# Altium schematic symbol library Main_C.SCHLIB: 51 symbols
Pins are listed as number, name and electrical type; pins without a type are passive.

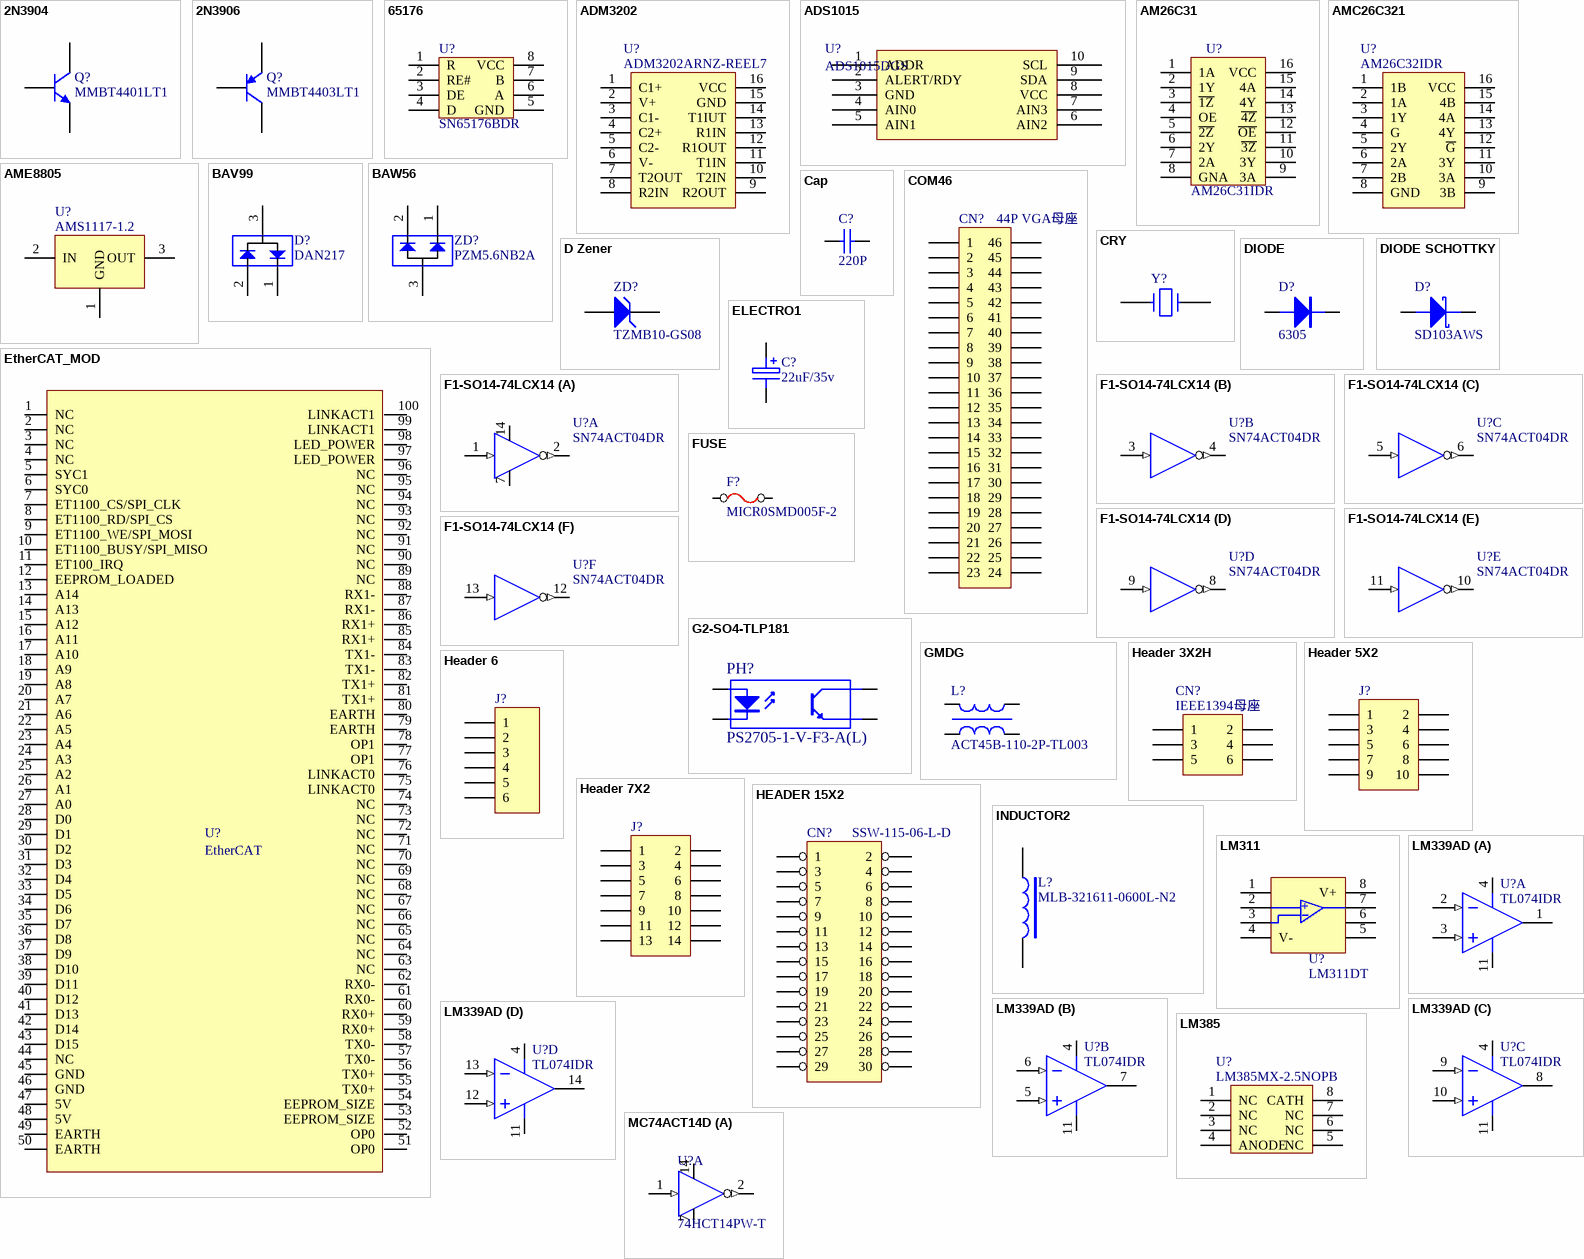
[diagram p0: symbols 2N3904 to MC74ACT14D]

## 2N3904
designator Q?, comment MMBT4401LT1
NPN General Purpose Amplifier; Published: 8-Jun-2000; LatestRevisionDate: 15-Jan-2003; LatestRevisionNote: PCB Footprint 'BCY-W3/D4.7' replaced; DatasheetDocument: 1997; PackageDocument: Sep-1998; PackageReference: TO-92A; Publisher: Altium Limited; Code_JEDEC: TO-92A; ComponentLink1Description: Manufacturer Link; ComponentLink1URL: http://www.fairchildsemi.com/; ComponentLink2Description: Datasheet; ComponentLink2URL: http://www.fairchildsemi.com/ds/2N%2F2N3904.pdf
footprint SOT-23
simulation model 2N3904 (NPN)
signal-integrity model 2N3904
pins: 1 E, 2 B, 3 C

## 2N3906
designator Q?, comment MMBT4403LT1
PNP General Purpose Amplifier; Published: 8-Jun-2000; LatestRevisionDate: 15-Jan-2003; LatestRevisionNote: PCB Footprint 'BCY-W3/D4.7' replaced; DatasheetDocument: 1997; PackageDocument: Sep-1998; PackageReference: TO-92A; Publisher: Altium Limited; Code_JEDEC: TO-92A; ComponentLink1Description: Manufacturer Link; ComponentLink1URL: http://www.fairchildsemi.com/; ComponentLink2Description: Datasheet; ComponentLink2URL: http://www.fairchildsemi.com/ds/2N%2F2N3906.pdf
footprint SOT-23
simulation model 2N3906 (PNP)
signal-integrity model 2N3906
pins: 1 E, 2 B, 3 C

## 65176
designator U?, comment SN65176BDR
footprint SOP-8 (U?)
pins: 1 R, 2 RE#, 3 DE, 4 D, 5 GND, 6 A, 7 B, 8 VCC

## ADM3202
designator U?, comment ADM3202ARNZ-REEL7
footprint SOP-14 (U?)
pins: 1 C1+, 2 V+, 3 C1-, 4 C2+, 5 C2-, 6 V-, 7 T2OUT, 8 R2IN, 9 R2OUT, 10 T2IN, 11 T1IN, 12 R1OUT, 13 R1IN, 14 T1IUT, 15 GND, 16 VCC

## ADS1015
designator U?, comment ADS1015DGS
footprint VSSOP-10
pins: 1 ADDR, 2 ALERT/RDY, 3 GND, 4 AIN0, 5 AIN1, 6 AIN2, 7 AIN3, 8 VCC, 9 SDA, 10 SCL

## AM26C31
designator U?, comment AM26C31IDR
footprint SOP-14 (U?)
pins: 1 1A, 2 1Y, 3 ~{1Z}, 4 OE, 5 ~{2Z}, 6 2Y, 7 2A, 8 GNA, 9 3A, 10 3Y, 11 ~{3Z}, 12 ~{OE}, 13 ~{4Z}, 14 4Y, 15 4A, 16 VCC

## AMC26C321
designator U?, comment AM26C32IDR
footprint SOP-14 (U?)
pins: 1 1B, 2 1A, 3 1Y, 4 G, 5 2Y, 6 2A, 7 2B, 8 GND, 9 3B, 10 3A, 11 3Y, 12 ~{G}, 13 4Y, 14 4A, 15 4B, 16 VCC

## AME8805
designator U?, comment AMS1117-1.2
footprint SOT89D (Footprint not found)
pins: 1 GND, 2 IN, 3 OUT

## BAV99
designator D?, comment DAN217
footprint SOT-23
pins: 1, 2, 3

## BAW56
designator ZD?, comment PZM5.6NB2A
footprint SOT-23
pins: 1, 2, 3

## Cap
designator C?, comment 220P
Capacitor; Value: 100pF; Published: 8-Jun-2000; LatestRevisionDate: 17-Jul-2002; LatestRevisionNote: Re-released for DXP Platform.; PackageReference: RAD-0.3; Publisher: Altium Limited
footprint 0603C
footprint VP32-3.2 (Capacitor, Ceramic, Thru-Hole, Dipped Radial; Body 5.1 x 3.2 mm (WxT) Pin Spacing 2.54 mm (typ))
footprint VP45-3.2 (Capacitor, Ceramic, Thru-Hole, Dipped Radial; Body 7.8 x 3.2 mm (WxT) Pin Spacing 5.08 mm (typ))
simulation model CAP (Capacitor)
signal-integrity model Cap
pins: 1, 2

## COM46
designator CN?, comment 44P VGA母座
pins: 1, 2, 3, 4, 5, 6, 7, 8, 9, 10, 11, 12, 13, 14, 15, 16, 17, 18, 19, 20, 21, 22, 23, 24, 25, 26, 27, 28, 29, 30, 31, 32, 33, 34, 35, 36, 37, 38, 39, 40, 41, 42, 43, 44, 45, 46

## CRY
designator Y?  (value not drawn)
footprint CY4X7 (Y?)
pins: 1, 2 3

## D Zener
designator ZD?, comment TZMB10-GS08
Zener Diode; Published: 8-Jun-2000; LatestRevisionDate: 17-Jul-2002; LatestRevisionNote: Re-released for DXP Platform.; PackageReference: DIODE-0.7; Publisher: Altium Limited
footprint MLL34D
simulation model ZENER (Diode)
signal-integrity model D Zener
pins: 1 A, 2 K

## DIODE
designator D?, comment 6305
Diode
footprint MLL35D
pins: 1, 2

## DIODE SCHOTTKY
designator D?, comment SD103AWS
Schottky Diode
pins: 1 A, 2 K

## ELECTRO1
designator C?, comment 22uF/35v
Electrolytic Capacitor
footprint EC46
pins: 1, 2

## EtherCAT_MOD
designator U?, comment EtherCAT
footprint EtherCAT
pins: 1 NC, 2 NC, 3 NC, 4 NC, 5 SYC1, 6 SYC0, 7 ET1100_CS/SPI_CLK, 8 ET1100_RD/SPI_CS, 9 ET1100_WE/SPI_MOSI, 10 ET1100_BUSY/SPI_MISO, 11 ET100_IRQ, 12 EEPROM_LOADED, 13 A14, 14 A13, 15 A12, 16 A11, 17 A10, 18 A9, 19 A8, 20 A7, 21 A6, 22 A5, 23 A4, 24 A3, 25 A2, 26 A1, 27 A0, 28 D0, 29 D1, 30 D2, 31 D3, 32 D4, 33 D5, 34 D6, 35 D7, 36 D8, 37 D9, 38 D10, 39 D11, 40 D12, 41 D13, 42 D14, 43 D15, 44 NC, 45 GND, 46 GND, 47 5V, 48 5V, 49 EARTH, 50 EARTH, 51 OP0, 52 OP0, 53 EEPROM_SIZE, 54 EEPROM_SIZE, 55 TX0+, 56 TX0+, 57 TX0-, 58 TX0-, 59 RX0+, 60 RX0+, 61 RX0-, 62 RX0-, 63 NC, 64 NC, 65 NC, 66 NC, 67 NC, 68 NC, 69 NC, 70 NC, 71 NC, 72 NC, 73 NC, 74 NC, 75 LINKACT0, 76 LINKACT0, 77 OP1, 78 OP1, 79 EARTH, 80 EARTH, 81 TX1+, 82 TX1+, 83 TX1-, 84 TX1-, 85 RX1+, 86 RX1+, 87 RX1-, 88 RX1-, 89 NC, 90 NC, 91 NC, 92 NC, 93 NC, 94 NC, 95 NC, 96 NC, 97 LED_POWER, 98 LED_POWER, 99 LINKACT1, 100 LINKACT1

## F1-SO14-74LCX14
designator U?, comment SN74ACT04DR
IC; Parts Number: 00000; Parts DES: SO14; Body Width 5.6mm; Pitch 1.27mm; Parts Type: SMD IC; Parts Model: 74LCX14; PCB DECAL: SO14 Small Outline; 14 Leads; Body Width 5.6mm; Pitch 1.27mm; Units: PCS; Height(mm): 1.1mm; Value: SN74ACT04DR
footprint D014_N
footprint D014_L
footprint D014_M
footprint SOIC14
part A pins: 1 A (in), 2 Y (out), 7 GND, 14 POW
part B pins: 3 A (in), 4 Y (out)
part C pins: 5 A (in), 6 Y (out)
part D pins: 8 Y (out), 9 A (in)
part E pins: 10 Y (out), 11 A (in)
part F pins: 12 Y (out), 13 A (in)
2 alternate drawings of the same symbol

## FUSE
designator F?, comment MICR0SMD005F-2
Fuse
simulation model FUSE (SUBCKT)
pins: 1, 2

## G2-SO4-TLP181
designator PH?, comment PS2705-1-V-F3-A(L)
Opto-coupler; Parts DES: 光耦; Parts Number: 30102; Parts Model: TLP181GB （东芝）; Parts Type: SMD IC; PCB DECAL: SO4 Small Outline; 4 Leads; Body Width 4.4mm; Pitch 2.54mm; Units: PCS; Value: TLP185; Height(mm): 2.5mm
footprint DIP4
footprint SOIC4
footprint SOIC4
pins: 1, 2, 3, 4
2 alternate drawings of the same symbol

## GMDG
designator L?, comment ACT45B-110-2P-TL003
footprint INDUCTOR-M
pins: 1, 2, 3, 4

## Header 3X2H
designator CN?, comment IEEE1394母座
Header, 3-Pin, Dual row, Right Angle; LatestRevisionDate: 17-Jul-2002; LatestRevisionNote: Re-released for DXP Platform.; Publisher: Altium Limited
footprint HDR2X3H (Connector; Header; 3x2 Position; Right Angle)
signal-integrity model Connector
pins: 1, 2, 3, 4, 5, 6

## Header 5X2
designator J?
Header, 5-Pin, Dual row; LatestRevisionDate: 17-Jul-2002; LatestRevisionNote: Re-released for DXP Platform.; Publisher: Altium Limited
footprint HDR2X5 (Connector; Header; 5x2 Position)
signal-integrity model Connector
pins: 1, 2, 3, 4, 5, 6, 7, 8, 9, 10

## Header 6
designator J?  (value not drawn)
Header, 6-Pin; LatestRevisionDate: 17-Jul-2002; LatestRevisionNote: Re-released for DXP Platform.; Publisher: Altium Limited
footprint HDR1X6 (Connector; Header; 6 Position)
signal-integrity model Connector
pins: 1, 2, 3, 4, 5, 6

## Header 7X2
designator J?
Header, 7-Pin, Dual row; LatestRevisionDate: 17-Jul-2002; LatestRevisionNote: Re-released for DXP Platform.; Publisher: Altium Limited
footprint HDR2X7 (Connector; Header; 7x2 Position)
signal-integrity model Connector
pins: 1, 2, 3, 4, 5, 6, 7, 8, 9, 10, 11, 12, 13, 14

## HEADER 15X2
designator CN?, comment SSW-115-06-L-D
footprint TB18
pins: 1, 2, 3, 4, 5, 6, 7, 8, 9, 10, 11, 12, 13, 14, 15, 16, 17, 18, 19, 20, 21, 22, 23, 24, 25, 26, 27, 28, 29, 30

## INDUCTOR2
designator L?, comment MLB-321611-0600L-N2
footprint 1206R
pins: 1, 2

## LM311
designator U?, comment LM311DT
footprint SOP-8 (U?)
pins: 1 GROUNT, 2 INPUT, 3 INPUT, 4 V-, 5, 6, 7, 8 V+
text: +

## LM339AD
designator U?, comment TL074IDR
Quad Single-Supply Comparator; Published: 17-Jul-2002; LatestRevisionDate: 13-Apr-2006; LatestRevisionNote: IPC-7351 Footprint Added.; DatasheetVersion: 1988; PackageVersion: 1991; PackageReference: 751A-02; Publisher: Altium Limited; PackageDescription: 14-Pin Small Outline Integrated Circuit 1.27 mm Pitch; Code_IPC: SOIC127P600-14; ComponentLink1Description: Manufacturer Link; ComponentLink1URL: http://www.onsemi.com/site/products/taxonomy/0,4438,133,00.html
3D model 751A-02 (14-Pin Small Outline Integrated Circuit 1.27 mm Pitch)
footprint SOP-14 (U?)
pins on every part: 4 GND (power), 11 V+ (power)
part A pins: 1 OUT (oc), 2 IN- (in), 3 IN+ (in)
part B pins: 5 IN+ (in), 6 IN- (in), 7 OUT2 (oc)
part C pins: 8 OUT (oc), 9 IN- (in), 10 IN+ (in)
part D pins: 12 IN+ (in), 13 IN- (in), 14 OUT (oc)

## LM385
designator U?, comment LM385MX-2.5NOPB
footprint SOP-8 (U?)
pins: 1 NC, 2 NC, 3 NC, 4 ANODE, 5 NC, 6 NC, 7 NC, 8 CATH

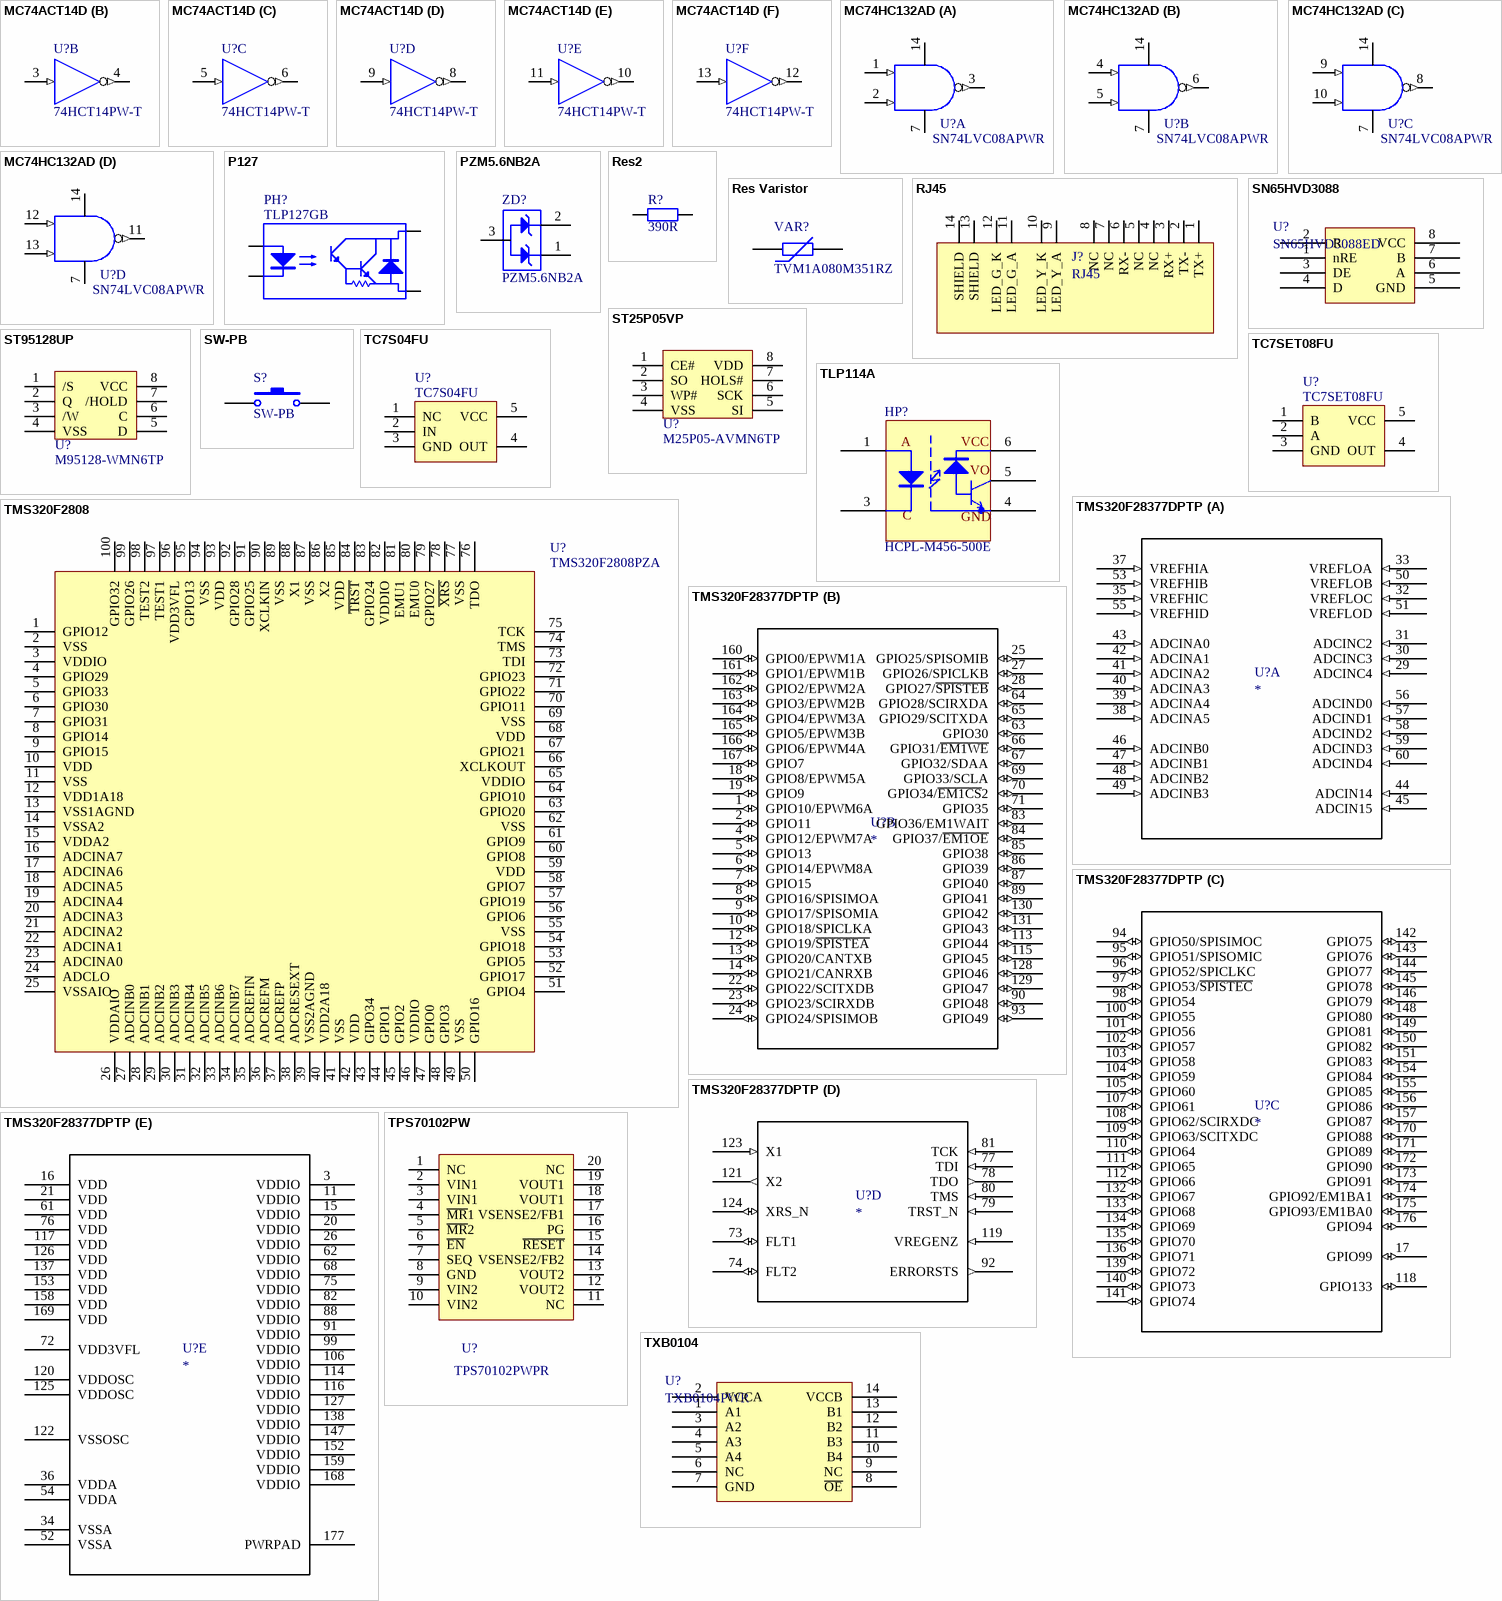
[diagram p1: symbols MC74ACT14D to TXB0104]

## MC74ACT14D
designator U?, comment 74HCT14PW-T
Hex Schmitt-Trigger Inverter; Published: 15-Apr-2002; LatestRevisionDate: 13-Apr-2006; LatestRevisionNote: IPC-7351 Footprint Added.; DatasheetVersion: 9-Apr-1996; PackageReference: 751A-03; Publisher: Altium Limited; PackageDescription: 14-Pin Small Outline Integrated Circuit 1.27 mm Pitch; Code_JEDEC: MS-012-AB; Code_IPC: SOIC127P600-14; ComponentLink1Description: Manufacturer Link; ComponentLink1URL: http://www.onsemi.com/; ComponentLink2Description: Datasheet; ComponentLink2URL: http://www.onsemi.com/pub/Collateral/MC74AC14-D.PDF
footprint sop-14 (U?)
part A pins: 1 IN (in), 2 ~{OUT} (out), 7 GND, 14 VCC
part B pins: 3 IN (in), 4 ~{OUT} (out)
part C pins: 5 IN (in), 6 ~{OUT} (out)
part D pins: 8 ~{OUT} (out), 9 IN (in)
part E pins: 10 ~{OUT} (out), 11 IN (in)
part F pins: 12 ~{OUT} (out), 13 IN (in)

## MC74HC132AD
designator U?, comment SN74LVC08APWR
Quad 2-Input NAND Gate with Schmitt Trigger Inputs; Published: 17-Jul-2002; LatestRevisionDate: 13-Apr-2006; LatestRevisionNote: IPC-7351 Footprint Added.; DatasheetVersion: 1989; PackageVersion: 1991; PackageReference: 751A-02; Publisher: Altium Limited; PackageDescription: 14-Pin Small Outline Integrated Circuit 1.27 mm Pitch; Code_IPC: SOIC127P600-14; ComponentLink1Description: Manufacturer Link; ComponentLink1URL: http://www.onsemi.com/site/products/parametrics/0,4446,247,00.html; ComponentLink2Description: Ibis Model; ComponentLink2URL: http://www.onsemi.com/pub/Collateral/MC54HC132AJ.IBS
footprint 751A-02_N (SOIC, 14-Leads, Body 8.7x3.9mm, Pitch 1.27mm, IPC Medium Density)
footprint 751A-02_L (SOIC, 14-Leads, Body 8.7x3.9mm, Pitch 1.27mm, IPC High Density)
footprint 751A-02_M (SOIC, 14-Leads, Body 8.7x3.9mm, Pitch 1.27mm, IPC Low Density)
3D model 751A-02 (14-Pin Small Outline Integrated Circuit 1.27 mm Pitch)
signal-integrity model MC74HC132AD
footprint SSOP-14 (U?)
pins on every part: 7 GND (power), 14 VCC (power)
part A pins: 1 A (in), 2 B (in), 3 Y (out)
part B pins: 4 A (in), 5 B (in), 6 Y (out)
part C pins: 8 Y (out), 9 A (in), 10 B (in)
part D pins: 11 Y (out), 12 A (in), 13 B (in)

## P127
designator PH?, comment TLP127GB
pins: 1 LED Anode, 2 LED Cathode, 3, 4

## PZM5.6NB2A
designator ZD?
pins: 1, 2, 3

## Res2
designator R?, comment 390R
Resistor; Value: 1K; Published: 8-Jun-2000; LatestRevisionDate: 17-Jul-2002; LatestRevisionNote: Re-released for DXP Platform.; PackageReference: AXIAL-0.4; Publisher: Altium Limited
footprint 0603R
simulation model RESISTOR (Resistor)
signal-integrity model Res
pins: 1, 2

## Res Varistor
designator VAR?, comment TVM1A080M351RZ
Varistor (Voltage-Sensitive Resistor); Published: 24-Mar-1999; LatestRevisionDate: 04-Mar-2005; LatestRevisionNote: PCB Footprint replaced.; PackageReference: 6-0805; Publisher: Altium Limited
footprint 0603R
pins: 1, 2

## RJ45
designator J?
footprint RJ45
pins: 1 TX+, 2 TX-, 3 RX+, 4 NC, 5 NC, 6 RX-, 7 NC, 8 NC, 9 LED_Y_A, 10 LED_Y_K, 11 LED_G_A, 12 LED_G_K, 13 SHIELD, 14 SHIELD

## SN65HVD3088
designator U?, comment SN65HVD3088ED
footprint SOIC-8
pins: 1 nRE, 2 R, 3 DE, 4 D, 5 GND, 6 A, 7 B, 8 VCC

## ST25P05VP
designator U?, comment M25P05-AVMN6TP
footprint SOP-8 (U?)
pins: 1 CE#, 2 SO, 3 WP#, 4 VSS, 5 SI, 6 SCK, 7 HOLS#, 8 VDD

## ST95128UP
designator U?, comment M95128-WMN6TP
footprint SOP-8 (U?)
pins: 1 /S, 2 Q, 3 /W, 4 VSS, 5 D, 6 C, 7 /HOLD, 8 VCC

## SW-PB
designator S?
Switch; Published: 24-Mar-1999; LatestRevisionDate: 17-Jul-2002; LatestRevisionNote: Re-released for DXP Platform.; PackageReference: SPST-2; Publisher: Altium Limited
footprint SPST-2 (Switch; 2 Leads)
pins: 1, 2

## TC7S04FU
designator U?
footprint SSOP5-P-0.65A (Footprint not found)
pins: 1 NC, 2 IN, 3 GND, 4 OUT, 5 VCC

## TC7SET08FU
designator U?
footprint SSOP5-P-0.65A (Footprint not found)
pins: 1 B, 2 A, 3 GND, 4 OUT, 5 VCC

## TLP114A
designator HP?, comment HCPL-M456-500E
footprint TLP114A
pins: 1, 3, 4, 5, 6
text: A; VCC; VO; C; GND

## TMS320F2808
designator U?, comment TMS320F2808PZA
footprint LQFP100 (Footprint not found)
pins: 1 GPIO12, 2 VSS, 3 VDDIO, 4 GPIO29, 5 GPIO33, 6 GPIO30, 7 GPIO31, 8 GPIO14, 9 GPIO15, 10 VDD, 11 VSS, 12 VDD1A18, 13 VSS1AGND, 14 VSSA2, 15 VDDA2, 16 ADCINA7, 17 ADCINA6, 18 ADCINA5, 19 ADCINA4, 20 ADCINA3, 21 ADCINA2, 22 ADCINA1, 23 ADCINA0, 24 ADCLO, 25 VSSAIO, 26 VDDAIO, 27 ADCINB0, 28 ADCINB1, 29 ADCINB2, 30 ADCINB3, 31 ADCINB4, 32 ADCINB5, 33 ADCINB6, 34 ADCINB7, 35 ADCREFIN, 36 ADCREFM, 37 ADCREFP, 38 ADCRESEXT, 39 VSS2AGND, 40 VDD2A18, 41 VSS, 42 VDD, 43 GIPO34, 44 GPIO1, 45 GPIO2, 46 VDDIO, 47 GPIO0, 48 GPIO3, 49 VSS, 50 GPIO16, 51 GPIO4, 52 GPIO17, 53 GPIO5, 54 GPIO18, 55 VSS, 56 GPIO6, 57 GPIO19, 58 GPIO7, 59 VDD, 60 GPIO8, 61 GPIO9, 62 VSS, 63 GPIO20, 64 GPIO10, 65 VDDIO, 66 XCLKOUT, 67 GPIO21, 68 VDD, 69 VSS, 70 GPIO11, 71 GPIO22, 72 GPIO23, 73 TDI, 74 TMS, 75 TCK, 76 TDO, 77 VSS, 78 ~{XRS}, 79 GPIO27, 80 EMU0, 81 EMU1, 82 VDDIO, 83 GPIO24, 84 ~{TRST}, 85 VDD, 86 X2, 87 VSS, 88 X1, 89 VSS, 90 XCLKIN, 91 GPIO25, 92 GPIO28, 93 VDD, 94 VSS, 95 GPIO13, 96 VDD3VFL, 97 TEST1, 98 TEST2, 99 GPIO26, 100 GPIO32

## TMS320F28377DPTP
designator U?
No Description Available; PartNumber: TMS320F28377DPTP; Manufacturer: Texas Instruments; CompType: IC; PIN_COUNT: 177; PackageReference: PTP0176F; MountType: SMT; RoHS: Y; RefDes: RefDes; Type: DEV; Value: Value; Copyright: Copyright (C) 2018 Accelerated Designs. All rights reserved
footprint PTP0176F_N
part A pins: 29 ADCINC4 (in), 30 ADCINC3 (in), 31 ADCINC2 (in), 32 VREFLOC (in), 33 VREFLOA (in), 35 VREFHIC (in), 37 VREFHIA (in), 38 ADCINA5 (in), 39 ADCINA4 (in), 40 ADCINA3 (in), 41 ADCINA2 (in), 42 ADCINA1 (in), 43 ADCINA0 (in), 44 ADCIN14 (in), 45 ADCIN15 (in), 46 ADCINB0 (in), 47 ADCINB1 (in), 48 ADCINB2 (in), 49 ADCINB3 (in), 50 VREFLOB (in), 51 VREFLOD (in), 53 VREFHIB (in), 55 VREFHID (in), 56 ADCIND0 (in), 57 ADCIND1 (in), 58 ADCIND2 (in), 59 ADCIND3 (in), 60 ADCIND4 (in)
part B pins: 1 GPIO10/EPWM6A (io), 2 GPIO11 (io), 4 GPIO12/EPWM7A (io), 5 GPIO13 (io), 6 GPIO14/EPWM8A (io), 7 GPIO15 (io), 8 GPIO16/SPISIMOA (io), 9 GPIO17/SPISOMIA (io), 10 GPIO18/SPICLKA (io), 12 GPIO19/~{SPISTEA} (io), 13 GPIO20/CANTXB (io), 14 GPIO21/CANRXB (io), 18 GPIO8/EPWM5A (io), 19 GPIO9 (io), 22 GPIO22/SCITXDB (io), 23 GPIO23/SCIRXDB (io), 24 GPIO24/SPISIMOB (io), 25 GPIO25/SPISOMIB (io), 27 GPIO26/SPICLKB (io), 28 GPIO27/~{SPISTEB} (io), 63 GPIO30 (io), 64 GPIO28/SCIRXDA (io), 65 GPIO29/SCITXDA (io), 66 GPIO31/~{EM1WE} (io), 67 GPIO32/SDAA (io), 69 GPIO33/SCLA (io), 70 GPIO34/~{EM1CS}2 (io), 71 GPIO35 (io), 83 GPIO36/EM1WAIT (io), 84 GPIO37/~{EM1OE} (io), 85 GPIO38 (io), 86 GPIO39 (io), 87 GPIO40 (io), 89 GPIO41 (io), 90 GPIO48 (io), 93 GPIO49 (io), 113 GPIO44 (io), 115 GPIO45 (io), 128 GPIO46 (io), 129 GPIO47 (io), 130 GPIO42 (io), 131 GPIO43 (io), 160 GPIO0/EPWM1A (io), 161 GPIO1/EPWM1B (io), 162 GPIO2/EPWM2A (io), 163 GPIO3/EPWM2B (io), 164 GPIO4/EPWM3A (io), 165 GPIO5/EPWM3B (io), 166 GPIO6/EPWM4A (io), 167 GPIO7 (io)
part C pins: 17 GPIO99 (io), 94 GPIO50/SPISIMOC (io), 95 GPIO51/SPISOMIC (io), 96 GPIO52/SPICLKC (io), 97 GPIO53/~{SPISTEC} (io), 98 GPIO54 (io), 100 GPIO55 (io), 101 GPIO56 (io), 102 GPIO57 (io), 103 GPIO58 (io), 104 GPIO59 (io), 105 GPIO60 (io), 107 GPIO61 (io), 108 GPIO62/SCIRXDC (io), 109 GPIO63/SCITXDC (io), 110 GPIO64 (io), 111 GPIO65 (io), 112 GPIO66 (io), 118 GPIO133 (io), 132 GPIO67 (io), 133 GPIO68 (io), 134 GPIO69 (io), 135 GPIO70 (io), 136 GPIO71 (io), 139 GPIO72 (io), 140 GPIO73 (io), 141 GPIO74 (io), 142 GPIO75 (io), 143 GPIO76 (io), 144 GPIO77 (io), 145 GPIO78 (io), 146 GPIO79 (io), 148 GPIO80 (io), 149 GPIO81 (io), 150 GPIO82 (io), 151 GPIO83 (io), 154 GPIO84 (io), 155 GPIO85 (io), 156 GPIO86 (io), 157 GPIO87 (io), 170 GPIO88 (io), 171 GPIO89 (io), 172 GPIO90 (io), 173 GPIO91 (io), 174 GPIO92/EM1BA1 (io), 175 GPIO93/EM1BA0 (io), 176 GPIO94 (io)
part D pins: 73 FLT1 (io), 74 FLT2 (io), 77 TDI (in), 78 TDO (out), 79 TRST_N (in), 80 TMS (in), 81 TCK (in), 92 ERRORSTS (out), 119 VREGENZ (in), 121 X2 (out), 123 X1 (in), 124 XRS_N (io)
part E pins: 3 VDDIO (power), 11 VDDIO (power), 15 VDDIO (power), 16 VDD (power), 20 VDDIO (power), 21 VDD (power), 26 VDDIO (power), 34 VSSA (power), 36 VDDA (power), 52 VSSA (power), 54 VDDA (power), 61 VDD (power), 62 VDDIO (power), 68 VDDIO (power), 72 VDD3VFL (power), 75 VDDIO (power), 76 VDD (power), 82 VDDIO (power), 88 VDDIO (power), 91 VDDIO (power), 99 VDDIO (power), 106 VDDIO (power), 114 VDDIO (power), 116 VDDIO (power), 117 VDD (power), 120 VDDOSC (power), 122 VSSOSC (power), 125 VDDOSC (power), 126 VDD (power), 127 VDDIO (power), 137 VDD (power), 138 VDDIO (power), 147 VDDIO (power), 152 VDDIO (power), 153 VDD (power), 158 VDD (power), 159 VDDIO (power), 168 VDDIO (power), 169 VDD (power), 177 PWRPAD (power)

## TPS70102PW
designator U?, comment TPS70102PWPR
footprint SSOP-20 (U?)
pins: 1 NC, 2 VIN1, 3 VIN1, 4 ~{MR}1, 5 ~{MR}2, 6 ~{EN}, 7 SEQ, 8 GND, 9 VIN2, 10 VIN2, 11 NC, 12 VOUT2, 13 VOUT2, 14 VSENSE2/FB2, 15 ~{RESET}, 16 PG, 17 VSENSE2/FB1, 18 VOUT1, 19 VOUT1, 20 NC

## TXB0104
designator U?, comment TXB0104PWR
footprint TSSOP-14
pins: 1 A1, 2 VCCA, 3 A2, 4 A3, 5 A4, 6 NC, 7 GND, 8 ~{OE}, 9 NC, 10 B4, 11 B3, 12 B2, 13 B1, 14 VCCB

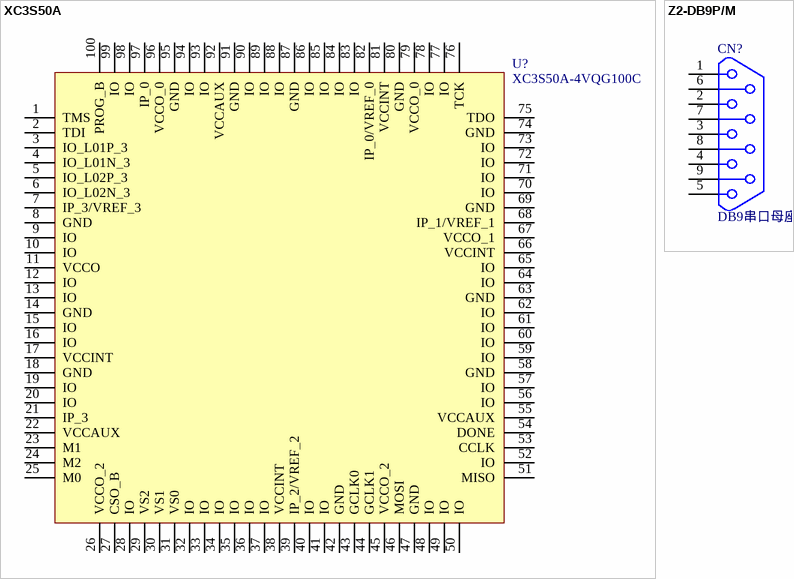
[diagram p2: symbols XC3S50A to Z2-DB9P/M]

## XC3S50A
designator U?, comment XC3S50A-4VQG100C
footprint VFQ100 (Footprint not found)
pins: 1 TMS, 2 TDI, 3 IO_L01P_3, 4 IO_L01N_3, 5 IO_L02P_3, 6 IO_L02N_3, 7 IP_3/VREF_3, 8 GND, 9 IO, 10 IO, 11 VCCO, 12 IO, 13 IO, 14 GND, 15 IO, 16 IO, 17 VCCINT, 18 GND, 19 IO, 20 IO, 21 IP_3, 22 VCCAUX, 23 M1, 24 M2, 25 M0, 26 VCCO_2, 27 CSO_B, 28 IO, 29 VS2, 30 VS1, 31 VS0, 32 IO, 33 IO, 34 IO, 35 IO, 36 IO, 37 IO, 38 VCCINT, 39 IP_2/VREF_2, 40 IO, 41 IO, 42 GND, 43 GCLK0, 44 GCLK1, 45 VCCO_2, 46 MOSI, 47 GND, 48 IO, 49 IO, 50 IO, 51 MISO, 52 IO, 53 CCLK, 54 DONE, 55 VCCAUX, 56 IO, 57 IO, 58 GND, 59 IO, 60 IO, 61 IO, 62 IO, 63 GND, 64 IO, 65 IO, 66 VCCINT, 67 VCCO_1, 68 IP_1/VREF_1, 69 GND, 70 IO, 71 IO, 72 IO, 73 IO, 74 GND, 75 TDO, 76 TCK, 77 IO, 78 IO, 79 VCCO_0, 80 GND, 81 VCCINT, 82 IP_0/VREF_0, 83 IO, 84 IO, 85 IO, 86 IO, 87 GND, 88 IO, 89 IO, 90 IO, 91 GND, 92 VCCAUX, 93 IO, 94 IO, 95 GND, 96 VCCO_0, 97 IP_0, 98 IO, 99 IO, 100 PROG_B

## Z2-DB9P/M
designator CN?  value DB9串口母座  (hidden comment: Z2-DB9P/M)
Connector; Parts DES: DB9P母头; Parts Number: 00000; Parts Type: 插座; PCB DECAL: DB9; Units: PCS; Parts Model: DB9P母头; Height(mm): *
footprint DB9P/M
pins: 1, 2, 3, 4, 5, 6, 7, 8, 9
2 alternate drawings of the same symbol